# EAGLE library part LM393M (library Fairchild_By_element14_Batch_1)
Dual Differential Comparator
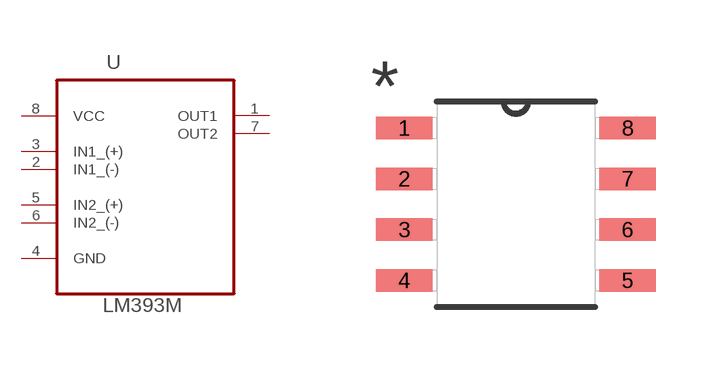
[diagram p218: symbol with the pads of SOIC127P600X180-8N; footprint SOIC127P600X180-8N]

Designator prefix U

## LM393M (MPN: LM393M; OC_FARNELL: 9487590; OC_NEWARK: 78K6008; PACKAGE: SO-8; SUPPLIER: FAIRCHILD SEMICONDUCTOR)  [SOIC127P600X180-8N]
1  OUT1  out
2  IN1_(-)  in
3  IN1_(+)  in
4  GND  pas
5  IN2_(+)  in
6  IN2_(-)  in
7  OUT2  out
8  VCC  pwr

## Footprint SOIC127P600X180-8N (pad centres in mm)
smd 1.422 x 0.559: 1 -2.794,1.905; 2 -2.794,0.635; 3 -2.794,-0.635; 4 -2.794,-1.905; 5 2.794,-1.905; 6 2.794,-0.635; 7 2.794,0.635; 8 2.794,1.905